# Altium schematic symbol library USB3.0A_DS1095-05.SchLib: 1 symbol
Pins are listed as number, name and electrical type; pins without a type are passive.

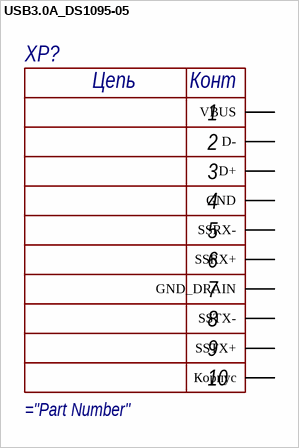
[diagram p0: symbol USB3.0A_DS1095-05]

## USB3.0A_DS1095-05
designator XP?
pins: 0 Корпус, 1 VBUS, 2 D-, 3 D+, 4 GND, 5 SSRX-, 6 SSRX+, 7 GND_DRAIN, 8 SSTX-, 9 SSTX+
text: Цепь; Конт; 10